# EAGLE library part 12AX7-P (library tubes)
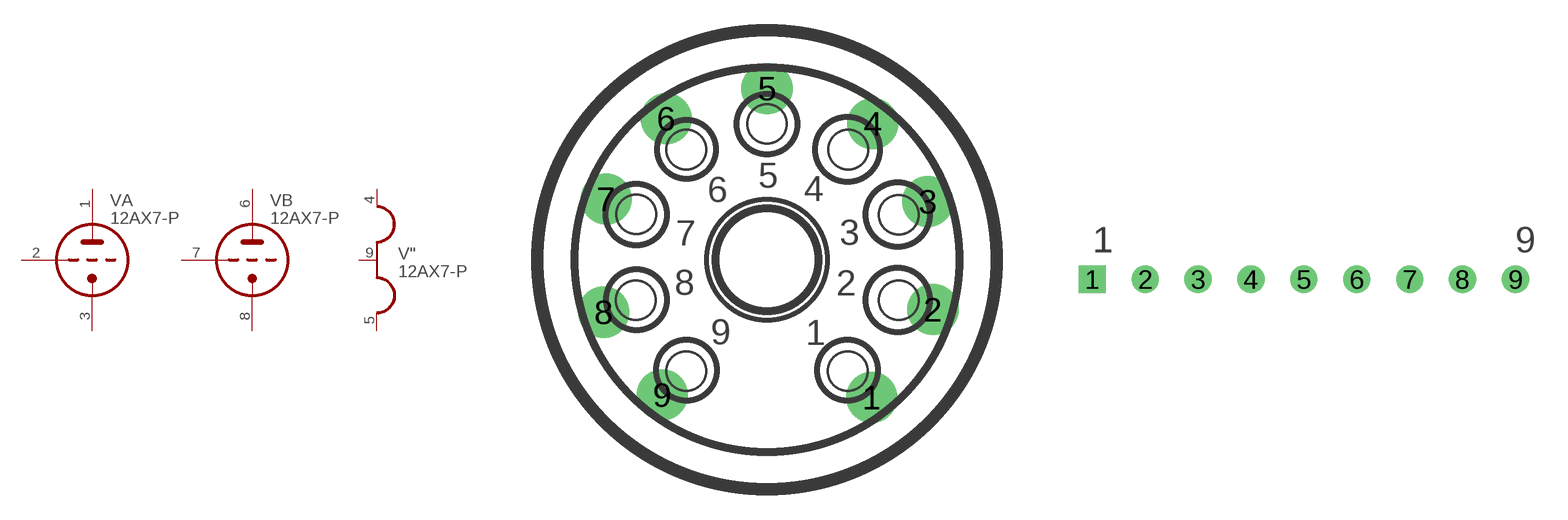
[diagram p48: symbol with the pads of NOVAL; footprints NOVAL, NOVAL_IN_LINE]

Designator prefix V; gates A=TRIODE B=TRIODE "=HEATER_2

## 12AX7-P  [NOVAL]
1  A:TA  pas
2  A:TG  pas
3  A:TK  pas
4  ":H1  pas
5  ":H3  pas
6  B:TA  pas
7  B:TG  pas
8  B:TK  pas
9  ":H2  pas

## 12AX7-PLINE  [NOVAL_IN_LINE]
Pads as for NOVAL

## Footprint NOVAL (pad centres in mm)
drill 1.422 pad 2.54: 1 5.207,-6.858; 2 8.254,-2.484; 3 8.004,2.893; 4 5.258,6.77; 5 0,8.524; 6 -5.004,7.024; 7 -8.004,3.02; 8 -8.127,-2.611; 9 -5.207,-6.731

## Footprint NOVAL_IN_LINE (pad centres in mm)
drill 0.8 square: 1 -10.16,0
drill 0.8: 2 -7.62,0; 3 -5.08,0; 4 -2.54,0; 5 0,0; 6 2.54,0; 7 5.08,0; 8 7.62,0; 9 10.16,0